# EAGLE library part MICROMATCH-8_SMD (library robotter_connector)
Ref FN : 1865096
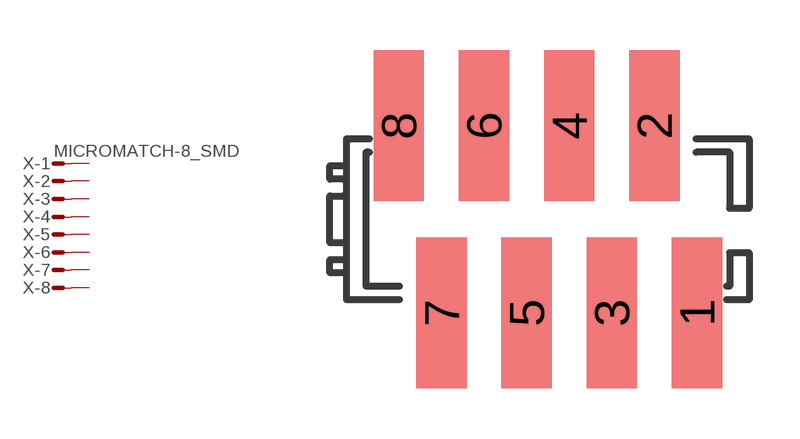
[diagram p10: symbol with the pads of MICROMATCH-8_SMD; footprint MICROMATCH-8_SMD]

Designator prefix X; gates -1=MV -2=M -3=M -4=M -5=M -6=M -7=M -8=M

## MICROMATCH-8_SMD (FARNELL: 1865096; MOUSER: 571-7-188275-8; RS: 739-1227)  [MICROMATCH-8_SMD]
1  -1:S  pas
2  -2:S  pas
3  -3:S  pas
4  -4:S  pas
5  -5:S  pas
6  -6:S  pas
7  -7:S  pas
8  -8:S  pas

## Footprint MICROMATCH-8_SMD (pad centres in mm)
smd 1.5 x 4.5: 1 4.445,-2.794; 2 3.175,2.794; 3 1.905,-2.794; 4 0.635,2.794; 5 -0.635,-2.794; 6 -1.905,2.794; 7 -3.175,-2.794; 8 -4.445,2.794